# EAGLE library part SSD1306-ALI (library keves)
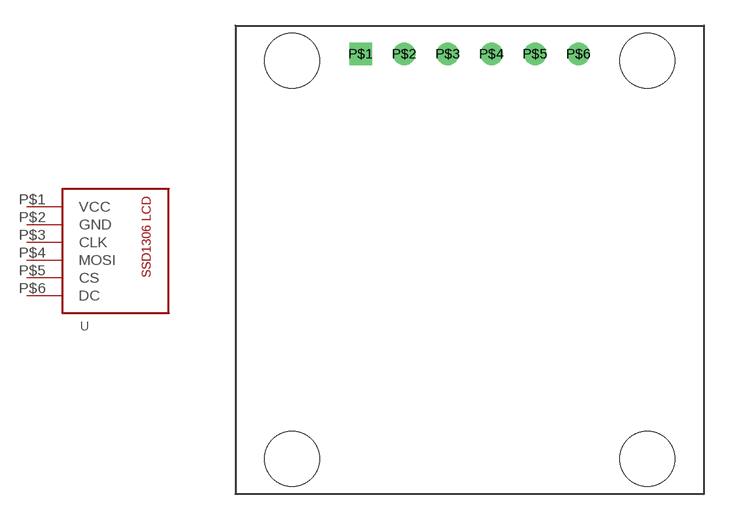
[diagram p29: symbol with the pads of SSD1306-ALI; footprint SSD1306-ALI]

Designator prefix -

## SSD1306-ALI  [SSD1306-ALI]
P$1  VCC
P$2  GND
P$3  CLK
P$4  MOSI
P$5  CS
P$6  DC

## Footprint SSD1306-ALI (pad centres in mm)
http://www.aliexpress.com/item/3-3V-5V-0-96-LCD-Modules-IIC-I2C-128X64-SSD1306-OLED-LCD-Display-Module-Arduino/32252523430.html
drill 0.8 square: P$1 -6.35,12
drill 0.8: P$2 -3.81,12; P$3 -1.27,12; P$4 1.27,12; P$5 3.81,12; P$6 6.35,12
hole 3.2 at -10.35,-11.6
hole 3.2 at -10.35,11.6
hole 3.2 at 10.35,11.6
hole 3.2 at 10.35,-11.6